# EAGLE library part LM75 (library lm75)
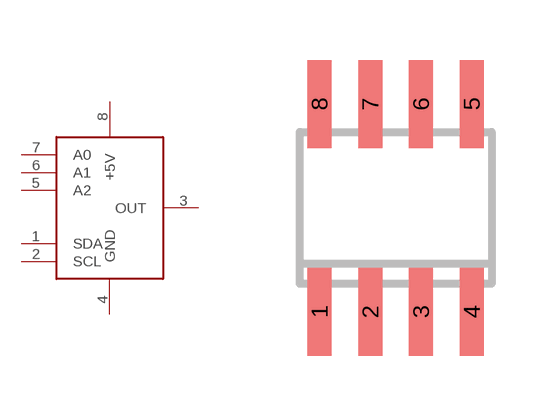
[diagram p0: symbol with the pads of SO8; footprint SO8]

Designator prefix -

## LM75  [SO8]
1  SDA
2  SCL  in
3  OUT  oc
4  GND  pwr
5  A2  in
6  A1  in
7  A0  in
8  +5V  pwr

## Footprint SO8 (pad centres in mm)
8-Lead Small Outline IC (SO-8) Source: http://www.analog.com/UploadedFiles/Data_Sheets/703465986AD8611_2_0.pdf
smd 0.6 x 2.2: 1 -1.905,-2.6; 2 -0.635,-2.6; 3 0.635,-2.6; 4 1.905,-2.6; 5 1.905,2.6; 6 0.635,2.6; 7 -0.635,2.6; 8 -1.905,2.6